# EAGLE library part CY7C64215 (library SparkFun-DigitalIC)
Cypress PSOC uC with USB
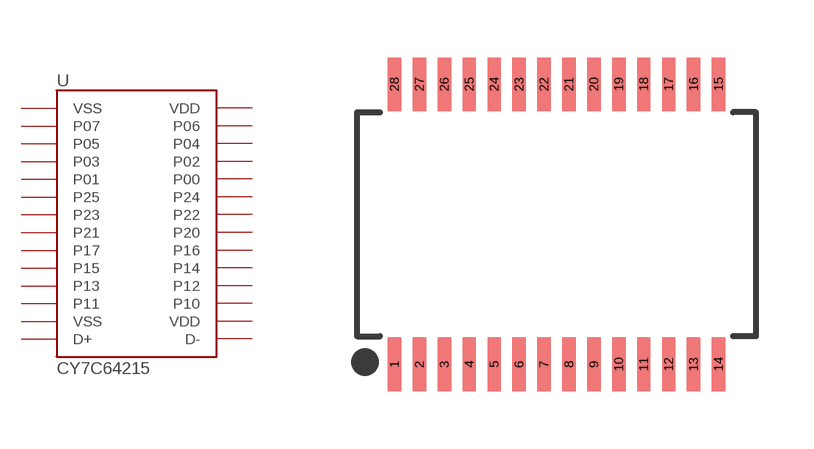
[diagram p24: symbol with the pads of SSOP28DB; footprint SSOP28DB]

Designator prefix -

## CY7C64215  [SSOP28DB]
1  VSS
2  P07
3  P05
4  P03
5  P01
6  P25
7  P23
8  P21
9  P17
10  P15
11  P13
12  P11
13  VSS
14  D+
15  D-
16  VDD
17  P10
18  P12
19  P14
20  P16
21  P20
22  P22
23  P24
24  P00
25  P02
26  P04
27  P06
28  VDD

## Footprint SSOP28DB (pad centres in mm)
Small Shrink Outline Package
smd 0.348 x 1.397: 1 -4.225,-3.656; 2 -3.575,-3.656; 3 -2.925,-3.656; 4 -2.275,-3.656; 5 -1.625,-3.656; 6 -0.975,-3.656; 7 -0.325,-3.656; 8 0.325,-3.656; 9 0.975,-3.656; 10 1.625,-3.656; 11 2.275,-3.656; 12 2.925,-3.656; 13 3.575,-3.656; 14 4.225,-3.656; 15 4.225,3.656; 16 3.575,3.656; 17 2.925,3.656; 18 2.275,3.656; 19 1.625,3.656; 20 0.975,3.656; 21 0.325,3.656; 22 -0.325,3.656; 23 -0.975,3.656; 24 -1.625,3.656; 25 -2.275,3.656; 26 -2.925,3.656; 27 -3.575,3.656; 28 -4.225,3.656